# Altium integrated library Linear Technology Power Management Hot Swap Controllers.IntLib: 992 symbols (part 51 of 93)
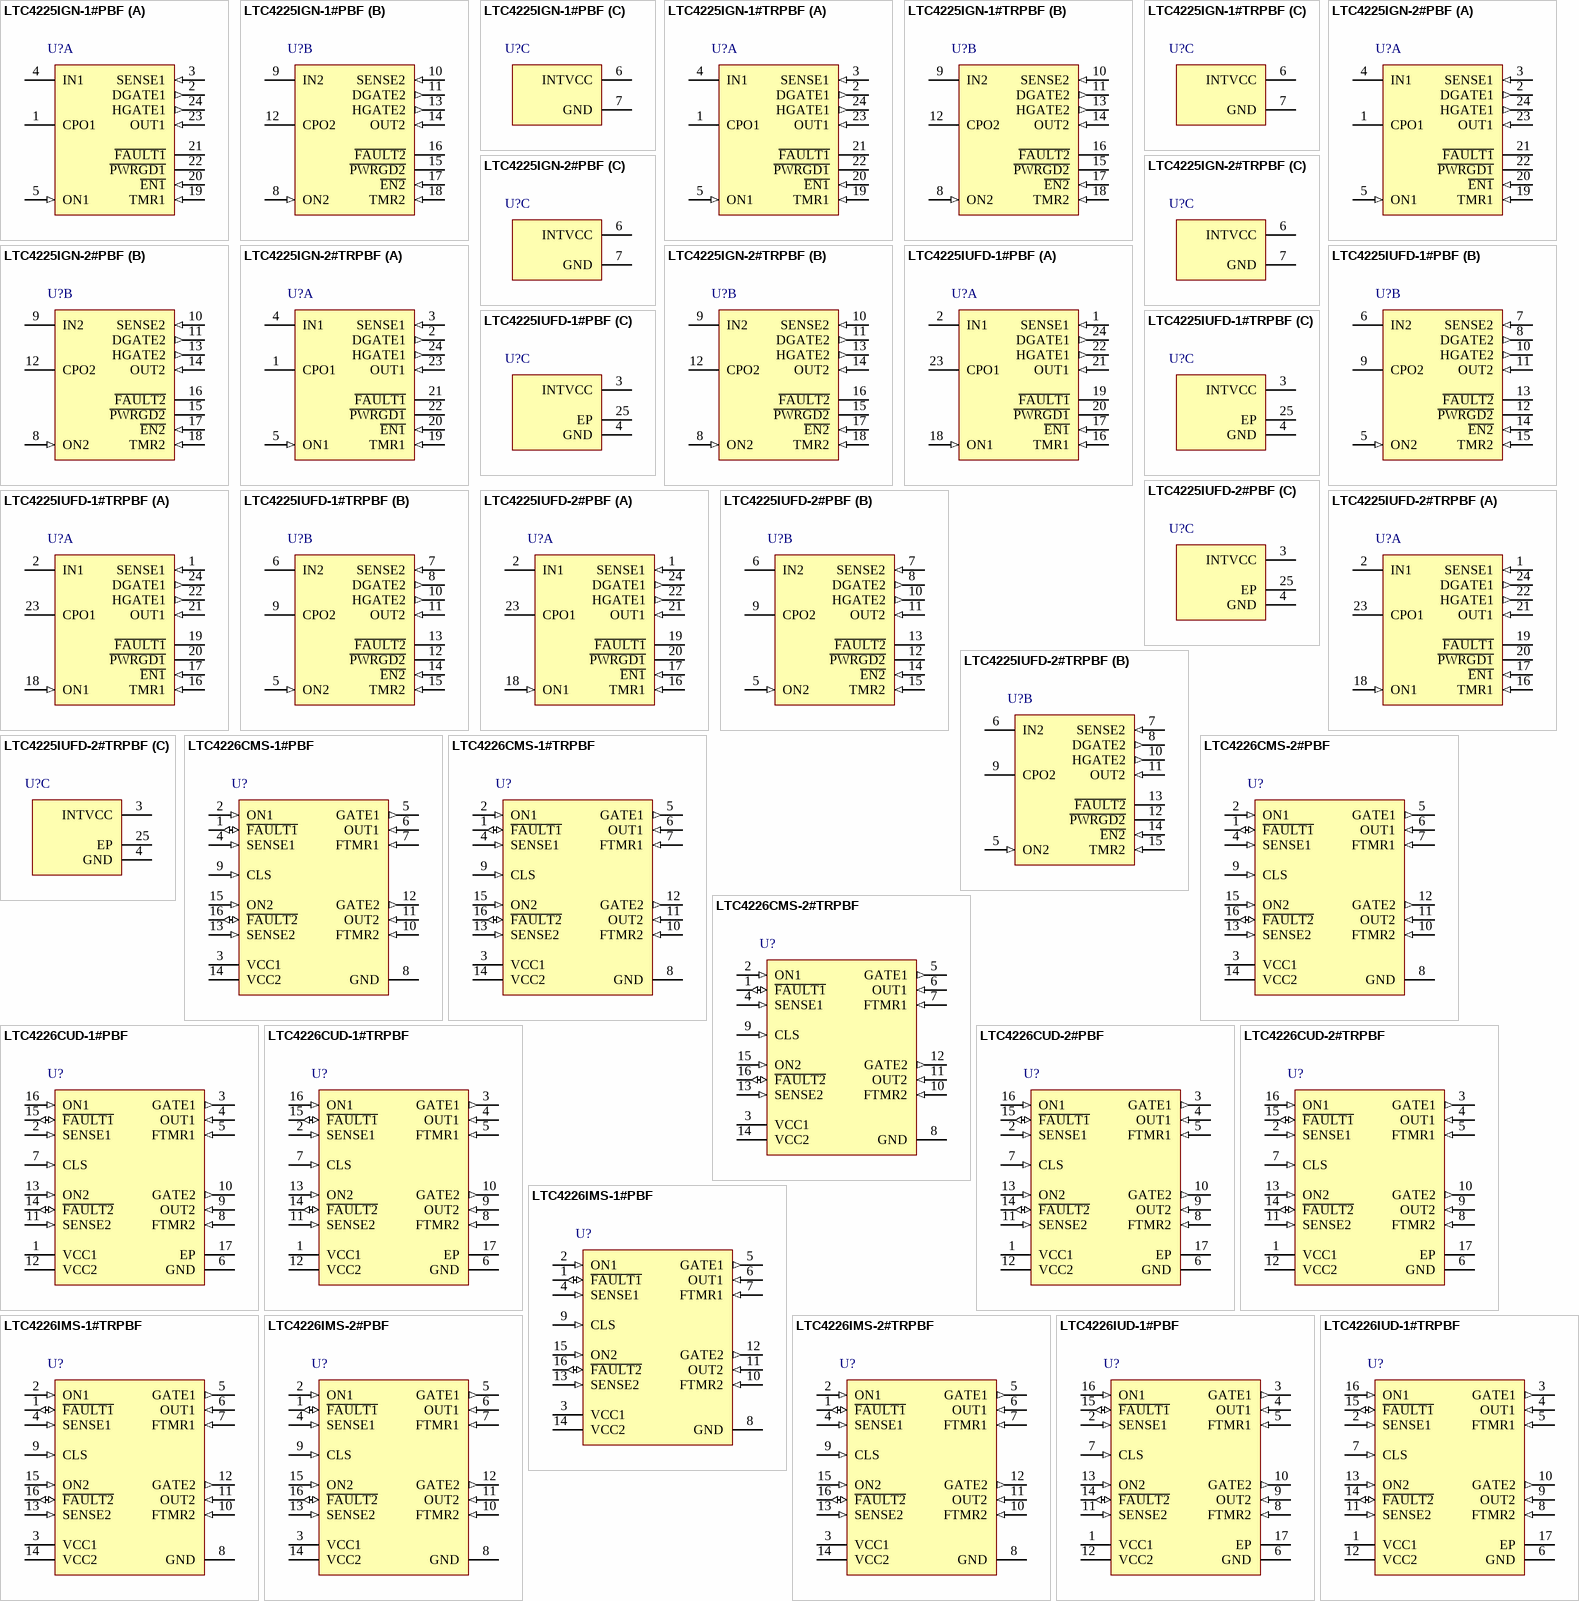
[diagram p87: symbols LTC4225IGN-1#PBF to LTC4226IUD-1#TRPBF]

## LTC4225IUFD-2#TRPBF
designator U?
Dual Ideal Diode and Hot Swap Controller, 2.9 to 18 V Vin, 24-pin QFN (UFD-24), -40 to 85 degC, Pb-Free, Tape and Reel; Manufacturer: Linear Technology; PartNumber: LTC4225IUFD-2#TRPBF; Active Limiting: yes; Circuit Breaker Accuracy(%): 5; Circuit Breaker Threshold: 50 mV; Circuit Breakers(#): 2; Extended Temp: C, I; Foldback: no; PackageVersion: Rev. A, 06/2010; PackageReference: UFD-24; PackageDescription: 24-Pin Plastic QFN, Body 5 x 4 mm, Pitch 0.5 mm; Supplier 1: Digi-Key; Supplier Part Number 1: LTC4225IUFD-2#TRPBF-ND; Fault: yes; Packing: Tape and Reel; Power Good: yes; RoHS: TRUE; Vin Range: 2.9 to 18 V; Mounting Technology: Surface Mount; Code_JEDEC: MO-220; ComponentLink1Description: Manufacturer URL; ComponentLink1URL: http://www.linear.com/; ComponentLink2Description: Datasheet; ComponentLink2URL: http://cds.linear.com/docs/en/datasheet/422512f.pdf; ComponentLink3Description: Package Specification; ComponentLink3URL: http://cds.linear.com/docs/en/packaging/QFN_24_05-08-1696.pdf
footprint LT-UFD-24_N (QFN, 24-Leads, Body 5.1x4.1mm, Pitch 0.5mm, Thermal Pad 3.65x2.65 mm, IPC Medium Density)
footprint LT-UFD-24_L (QFN, 24-Leads, Body 5.1x4.1mm, Pitch 0.5mm, Thermal Pad 3.65x2.65 mm, IPC High Density)
footprint LT-UFD-24_M (QFN, 24-Leads, Body 5.1x4.1mm, Pitch 0.5mm, Thermal Pad 3.65x2.65 mm, IPC Low Density)
part A pins: 1 SENSE1 (in) "Negative Current Sense Input. Connect this pin to the output of the current sense resistor. The current limit circuit controls HGATE to limit the voltage between IN and SENSE to 65mV. A circuit breaker trips when the sense (See Datasheet)", 2 IN1 (power) "Positive Supply Input and MOSFET Gate Drive Return. The 5V INTVCC supply is generated from IN1 and IN2 via an internal diode-OR. The voltage sensed at this pin is used to control DGATE for forward voltage regulation and (See Datasheet)", 16 TMR1 (in) "Timer Capacitor Terminal. Connect a capacitor between this pin and ground to set a 12ms/uF duration for current limit before the external Hot Swap MOSFET is turned off. The duration of the off time is 617ms/uF, resulting in (See Datasheet)", 17 ~{EN1} (in) "Enable Input. Ground this pin to enable Hot Swap control. If this pin is pulled high, the MOSFET is not allowed to turn on. A 10uA current source pulls this pin up to a diode below INTVCC. Upon E\N\ going low when ON is (See Datasheet)", 18 ON1 (in) "On Control Input. A rising edge above 1.235V turns on the external Hot Swap MOSFET and a falling edge below 1.155V turns it off. Connect this pin to an external resistive divider from IN to monitor the supply undervoltage (See Datasheet)", 19 ~{FAULT1} (oc) "Fault Status Output. Open-drain output that is normally pulled high by a 10uA current source to a diode below INTVCC. It may be pulled above INTVCC using an external pull-up. It pulls low when the circuit breaker is tripped (See Datasheet)", 20 ~{PWRGD1} (oc) "Power Status Output. Open-drain output that is normally pulled high by a 10uA current source to a diode below INTVCC. It may be pulled above INTVCC using an external pull-up. It pulls low when the MOSFET gate drive between (See Datasheet)", 21 OUT1 (in) "Output Voltage Sense and MOSFET Gate Drive Return. Connect this pin to the output side of the external MOSFET. The voltage sensed at this pin is used to control DGATE. The gate fast pull-down current returns through this pin (See Datasheet)", 22 HGATE1 (out) "Hot Swap MOSFET Gate Drive Output. Connect this pin to the gate of the external N-channel MOSFET for Hot Swap control. An internal 10uA current source charges the MOSFET gate. An internal clamp limits the gate voltage to 12V (See Datasheet)", 23 CPO1 "Charge Pump Output. Connect a capacitor from CPO1 or CPO2 to the corresponding IN1 or IN2 pin. The value of this capacitor is approximately 10x the gate capacitance (CISS) of the external MOSFET for ideal diode control. The (See Datasheet)", 24 DGATE1 (out) "Ideal Diode MOSFET Gate Drive Output. Connect this pin to the gate of an external N-channel MOSFET for ideal diode control. An internal clamp limits the gate voltage to 12V above and a diode voltage below IN. During fast (See Datasheet)"
part B pins: 5 ON2 (in) "On Control Input. A rising edge above 1.235V turns on the external Hot Swap MOSFET and a falling edge below 1.155V turns it off. Connect this pin to an external resistive divider from IN to monitor the supply undervoltage (See Datasheet)", 6 IN2 (power) "Positive Supply Input and MOSFET Gate Drive Return. The 5V INTVCC supply is generated from IN1 and IN2 via an internal diode-OR. The voltage sensed at this pin is used to control DGATE for forward voltage regulation and (See Datasheet)", 7 SENSE2 (in) "Negative Current Sense Input. Connect this pin to the output of the current sense resistor. The current limit circuit controls HGATE to limit the voltage between IN and SENSE to 65mV. A circuit breaker trips when the sense (See Datasheet)", 8 DGATE2 (out) "Ideal Diode MOSFET Gate Drive Output. Connect this pin to the gate of an external N-channel MOSFET for ideal diode control. An internal clamp limits the gate voltage to 12V above and a diode voltage below IN. During fast (See Datasheet)", 9 CPO2 "Charge Pump Output. Connect a capacitor from CPO1 or CPO2 to the corresponding IN1 or IN2 pin. The value of this capacitor is approximately 10x the gate capacitance (CISS) of the external MOSFET for ideal diode control. The (See Datasheet)", 10 HGATE2 (out) "Hot Swap MOSFET Gate Drive Output. Connect this pin to the gate of the external N-channel MOSFET for Hot Swap control. An internal 10uA current source charges the MOSFET gate. An internal clamp limits the gate voltage to 12V (See Datasheet)", 11 OUT2 (in) "Output Voltage Sense and MOSFET Gate Drive Return. Connect this pin to the output side of the external MOSFET. The voltage sensed at this pin is used to control DGATE. The gate fast pull-down current returns through this pin (See Datasheet)", 12 ~{PWRGD2} (oc) "Power Status Output. Open-drain output that is normally pulled high by a 10uA current source to a diode below INTVCC. It may be pulled above INTVCC using an external pull-up. It pulls low when the MOSFET gate drive between (See Datasheet)", 13 ~{FAULT2} (oc) "Fault Status Output. Open-drain output that is normally pulled high by a 10uA current source to a diode below INTVCC. It may be pulled above INTVCC using an external pull-up. It pulls low when the circuit breaker is tripped (See Datasheet)", 14 ~{EN2} (in) "Enable Input. Ground this pin to enable Hot Swap control. If this pin is pulled high, the MOSFET is not allowed to turn on. A 10uA current source pulls this pin up to a diode below INTVCC. Upon E\N\ going low when ON is (See Datasheet)", 15 TMR2 (in) "Timer Capacitor Terminal. Connect a capacitor between this pin and ground to set a 12ms/uF duration for current limit before the external Hot Swap MOSFET is turned off. The duration of the off time is 617ms/uF, resulting in (See Datasheet)"
part C pins: 3 INTVCC (power) "Internal 5V Supply Decoupling Output. This pin must have a 0.1uF or larger capacitor. An external load of less than 500uA can be connected at this pin.", 4 GND (power) "Device Ground", 25 EP (power) "The exposed pad may be left open or connected to device ground."

## LTC4226CMS-1#PBF
designator U?
Wide Operating Range Dual Hot Swap Controller, 4.5 to 44 V Vin, 16-pin SOP (MS-16), 0 to 70 degC, Pb-Free; Manufacturer: Linear Technology; PartNumber: LTC4226CMS-1#PBF; Active Limiting: yes; Circuit Breaker Accuracy(%): 10; Circuit Breaker Threshold: 50 mV; Circuit Breakers(#): 2; Extended Temp: C, I; Foldback: no; PackageVersion: Rev. Ø, 06/2010; PackageReference: MS16; PackageDescription: 16-Pin Plastic MSOP, Body 4.04 x 3.00 mm, Pitch 0.50 mm; Supplier 1: Digi-Key; Supplier Part Number 1: LTC4226CMS-1#PBF-ND; Supplier 2: Newark; Supplier Part Number 2: 48W6413; Fast Comparator: yes; Fault: yes; Power Good: no; Reset: no; RoHS: TRUE; Vin Range: 4.5 to 44 V; Mounting Technology: Surface Mount; ComponentLink1Description: Manufacturer URL; ComponentLink1URL: http://www.linear.com/; ComponentLink2Description: Datasheet; ComponentLink2URL: http://cds.linear.com/docs/en/datasheet/4226f.pdf; ComponentLink3Description: Package Specification; ComponentLink3URL: http://cds.linear.com/docs/en/packaging/05081669_A_MS16.pdf
footprint LT-MS-16_N (SOP, 16-Leads, Body 4.1x3.1mm, Pitch 0.5mm, IPC Medium Density)
footprint LT-MS-16_L (SOP, 16-Leads, Body 4.1x3.1mm, Pitch 0.5mm, IPC High Density)
footprint LT-MS-16_M (SOP, 16-Leads, Body 4.1x3.1mm, Pitch 0.5mm, IPC Low Density)
pins: 1 ~{FAULT1} (io) "F\A\U\L\T\ Input/Output Status. When the FTMR pin has reached the VFTMR(H) threshold, the fault status is set active and the F\A\U\L\T\ pin output pulls low. When fault is inactive, a 10uA current source pulls this pin up to (See Datasheet)", 2 ON1 (in) "ON Control Inputs. The ON pins have a 1.23V threshold with 50mV of hysteresis. A high input turns on the external MOSFET with a 10ms delay. A low input turns off the external MOSFET and resets circuit breaker faults.", 3 VCC1 (power) "Supply Voltage and Current Sense Positive Input. An undervoltage lockout circuit disables the MOSFET switch until VCC is above the lockout voltage VCC(UVL) for 50ms.", 4 SENSE1 (in) "Current Sense Negative Input. The circuit breaker comparator and the current limit amplifier monitor the voltage across the sense resistor. The current limitingamplifiercontrolstheGATEoftheexternalMOSFETto keep the sense (See Datasheet)", 5 GATE1 (out) "Gate Drive for External MOSFET. The gate driver controls the external N-channel MOSFET switch by applying a voltage across the GATE and OUT pins which connect to the MOSFET gate and source pins. A charge pump sources 9uA at (See Datasheet)", 6 OUT1 (in) "Gate Drive Return. Connect this pin to the source of the external N-channel MOSFET switch. This pin provides a return for the gate pull-down circuit. When the GATE pin is below the OUT pin, the internal clamp diode draws (See Datasheet)", 7 FTMR1 (in) "Fault Timer. A capacitor sets the dualrate fault timer durations: circuit breaker CB timeout and current limit CL timeout.", 8 GND (power) "Device ground", 9 CLS (in) "Three-State Current Limit Select Input. Tying this pin low enables 1.5x current limit; opening this pin enables 2xcurrent limit and tying this pin high (above 2V) enables 3xcurrentlimit.", 10 FTMR2 (in) "Fault Timer. A capacitor sets the dualrate fault timer durations: circuit breaker CB timeout and current limit CL timeout.", 11 OUT2 (in) "Gate Drive Return. Connect this pin to the source of the external N-channel MOSFET switch. This pin provides a return for the gate pull-down circuit. When the GATE pin is below the OUT pin, the internal clamp diode draws (See Datasheet)", 12 GATE2 (out) "Gate Drive for External MOSFET. The gate driver controls the external N-channel MOSFET switch by applying a voltage across the GATE and OUT pins which connect to the MOSFET gate and source pins. A charge pump sources 9uA at (See Datasheet)", 13 SENSE2 (in) "Current Sense Negative Input. The circuit breaker comparator and the current limit amplifier monitor the voltage across the sense resistor. The current limitingamplifiercontrolstheGATEoftheexternalMOSFETto keep the sense (See Datasheet)", 14 VCC2 (power) "Supply Voltage and Current Sense Positive Input. An undervoltage lockout circuit disables the MOSFET switch until VCC is above the lockout voltage VCC(UVL) for 50ms.", 15 ON2 (in) "ON Control Inputs. The ON pins have a 1.23V threshold with 50mV of hysteresis. A high input turns on the external MOSFET with a 10ms delay. A low input turns off the external MOSFET and resets circuit breaker faults.", 16 ~{FAULT2} (io) "F\A\U\L\T\ Input/Output Status. When the FTMR pin has reached the VFTMR(H) threshold, the fault status is set active and the F\A\U\L\T\ pin output pulls low. When fault is inactive, a 10uA current source pulls this pin up to (See Datasheet)"

## LTC4226CMS-1#TRPBF
designator U?
Wide Operating Range Dual Hot Swap Controller, 4.5 to 44 V Vin, 16-pin SOP (MS-16), 0 to 70 degC, Pb-Free, Tape and Reel; Manufacturer: Linear Technology; PartNumber: LTC4226CMS-1#TRPBF; Active Limiting: yes; Circuit Breaker Accuracy(%): 10; Circuit Breaker Threshold: 50 mV; Circuit Breakers(#): 2; Extended Temp: C, I; Foldback: no; PackageVersion: Rev. Ø, 06/2010; PackageReference: MS16; PackageDescription: 16-Pin Plastic MSOP, Body 4.04 x 3.00 mm, Pitch 0.50 mm; Supplier 1: Digi-Key; Supplier Part Number 1: LTC4226CMS-1#TRPBF-ND; Supplier 2: Newark; Supplier Part Number 2: 48W6414; Fast Comparator: yes; Fault: yes; Packing: Tape and Reel; Power Good: no; Reset: no; RoHS: TRUE; Vin Range: 4.5 to 44 V; Mounting Technology: Surface Mount; ComponentLink1Description: Manufacturer URL; ComponentLink1URL: http://www.linear.com/; ComponentLink2Description: Datasheet; ComponentLink2URL: http://cds.linear.com/docs/en/datasheet/4226f.pdf; ComponentLink3Description: Package Specification; ComponentLink3URL: http://cds.linear.com/docs/en/packaging/05081669_A_MS16.pdf
footprint LT-MS-16_N (SOP, 16-Leads, Body 4.1x3.1mm, Pitch 0.5mm, IPC Medium Density)
footprint LT-MS-16_L (SOP, 16-Leads, Body 4.1x3.1mm, Pitch 0.5mm, IPC High Density)
footprint LT-MS-16_M (SOP, 16-Leads, Body 4.1x3.1mm, Pitch 0.5mm, IPC Low Density)
pins: 1 ~{FAULT1} (io) "F\A\U\L\T\ Input/Output Status. When the FTMR pin has reached the VFTMR(H) threshold, the fault status is set active and the F\A\U\L\T\ pin output pulls low. When fault is inactive, a 10uA current source pulls this pin up to (See Datasheet)", 2 ON1 (in) "ON Control Inputs. The ON pins have a 1.23V threshold with 50mV of hysteresis. A high input turns on the external MOSFET with a 10ms delay. A low input turns off the external MOSFET and resets circuit breaker faults.", 3 VCC1 (power) "Supply Voltage and Current Sense Positive Input. An undervoltage lockout circuit disables the MOSFET switch until VCC is above the lockout voltage VCC(UVL) for 50ms.", 4 SENSE1 (in) "Current Sense Negative Input. The circuit breaker comparator and the current limit amplifier monitor the voltage across the sense resistor. The current limitingamplifiercontrolstheGATEoftheexternalMOSFETto keep the sense (See Datasheet)", 5 GATE1 (out) "Gate Drive for External MOSFET. The gate driver controls the external N-channel MOSFET switch by applying a voltage across the GATE and OUT pins which connect to the MOSFET gate and source pins. A charge pump sources 9uA at (See Datasheet)", 6 OUT1 (in) "Gate Drive Return. Connect this pin to the source of the external N-channel MOSFET switch. This pin provides a return for the gate pull-down circuit. When the GATE pin is below the OUT pin, the internal clamp diode draws (See Datasheet)", 7 FTMR1 (in) "Fault Timer. A capacitor sets the dualrate fault timer durations: circuit breaker CB timeout and current limit CL timeout.", 8 GND (power) "Device ground", 9 CLS (in) "Three-State Current Limit Select Input. Tying this pin low enables 1.5x current limit; opening this pin enables 2xcurrent limit and tying this pin high (above 2V) enables 3xcurrentlimit.", 10 FTMR2 (in) "Fault Timer. A capacitor sets the dualrate fault timer durations: circuit breaker CB timeout and current limit CL timeout.", 11 OUT2 (in) "Gate Drive Return. Connect this pin to the source of the external N-channel MOSFET switch. This pin provides a return for the gate pull-down circuit. When the GATE pin is below the OUT pin, the internal clamp diode draws (See Datasheet)", 12 GATE2 (out) "Gate Drive for External MOSFET. The gate driver controls the external N-channel MOSFET switch by applying a voltage across the GATE and OUT pins which connect to the MOSFET gate and source pins. A charge pump sources 9uA at (See Datasheet)", 13 SENSE2 (in) "Current Sense Negative Input. The circuit breaker comparator and the current limit amplifier monitor the voltage across the sense resistor. The current limitingamplifiercontrolstheGATEoftheexternalMOSFETto keep the sense (See Datasheet)", 14 VCC2 (power) "Supply Voltage and Current Sense Positive Input. An undervoltage lockout circuit disables the MOSFET switch until VCC is above the lockout voltage VCC(UVL) for 50ms.", 15 ON2 (in) "ON Control Inputs. The ON pins have a 1.23V threshold with 50mV of hysteresis. A high input turns on the external MOSFET with a 10ms delay. A low input turns off the external MOSFET and resets circuit breaker faults.", 16 ~{FAULT2} (io) "F\A\U\L\T\ Input/Output Status. When the FTMR pin has reached the VFTMR(H) threshold, the fault status is set active and the F\A\U\L\T\ pin output pulls low. When fault is inactive, a 10uA current source pulls this pin up to (See Datasheet)"

## LTC4226CMS-2#PBF
designator U?
Wide Operating Range Dual Hot Swap Controller, 4.5 to 44 V Vin, 16-pin SOP (MS-16), 0 to 70 degC, Pb-Free; Manufacturer: Linear Technology; PartNumber: LTC4226CMS-2#PBF; Active Limiting: yes; Circuit Breaker Accuracy(%): 10; Circuit Breaker Threshold: 50 mV; Circuit Breakers(#): 2; Extended Temp: C, I; Foldback: no; PackageVersion: Rev. Ø, 06/2010; PackageReference: MS16; PackageDescription: 16-Pin Plastic MSOP, Body 4.04 x 3.00 mm, Pitch 0.50 mm; Supplier 1: Digi-Key; Supplier Part Number 1: LTC4226CMS-2#PBF-ND; Supplier 2: Newark; Supplier Part Number 2: 48W6415; Fast Comparator: yes; Fault: yes; Power Good: no; Reset: no; RoHS: TRUE; Vin Range: 4.5 to 44 V; Mounting Technology: Surface Mount; ComponentLink1Description: Manufacturer URL; ComponentLink1URL: http://www.linear.com/; ComponentLink2Description: Datasheet; ComponentLink2URL: http://cds.linear.com/docs/en/datasheet/4226f.pdf; ComponentLink3Description: Package Specification; ComponentLink3URL: http://cds.linear.com/docs/en/packaging/05081669_A_MS16.pdf
footprint LT-MS-16_N (SOP, 16-Leads, Body 4.1x3.1mm, Pitch 0.5mm, IPC Medium Density)
footprint LT-MS-16_L (SOP, 16-Leads, Body 4.1x3.1mm, Pitch 0.5mm, IPC High Density)
footprint LT-MS-16_M (SOP, 16-Leads, Body 4.1x3.1mm, Pitch 0.5mm, IPC Low Density)
pins: 1 ~{FAULT1} (io) "F\A\U\L\T\ Input/Output Status. When the FTMR pin has reached the VFTMR(H) threshold, the fault status is set active and the F\A\U\L\T\ pin output pulls low. When fault is inactive, a 10uA current source pulls this pin up to (See Datasheet)", 2 ON1 (in) "ON Control Inputs. The ON pins have a 1.23V threshold with 50mV of hysteresis. A high input turns on the external MOSFET with a 10ms delay. A low input turns off the external MOSFET and resets circuit breaker faults.", 3 VCC1 (power) "Supply Voltage and Current Sense Positive Input. An undervoltage lockout circuit disables the MOSFET switch until VCC is above the lockout voltage VCC(UVL) for 50ms.", 4 SENSE1 (in) "Current Sense Negative Input. The circuit breaker comparator and the current limit amplifier monitor the voltage across the sense resistor. The current limitingamplifiercontrolstheGATEoftheexternalMOSFETto keep the sense (See Datasheet)", 5 GATE1 (out) "Gate Drive for External MOSFET. The gate driver controls the external N-channel MOSFET switch by applying a voltage across the GATE and OUT pins which connect to the MOSFET gate and source pins. A charge pump sources 9uA at (See Datasheet)", 6 OUT1 (in) "Gate Drive Return. Connect this pin to the source of the external N-channel MOSFET switch. This pin provides a return for the gate pull-down circuit. When the GATE pin is below the OUT pin, the internal clamp diode draws (See Datasheet)", 7 FTMR1 (in) "Fault Timer. A capacitor sets the dualrate fault timer durations: circuit breaker CB timeout and current limit CL timeout.", 8 GND (power) "Device ground", 9 CLS (in) "Three-State Current Limit Select Input. Tying this pin low enables 1.5x current limit; opening this pin enables 2xcurrent limit and tying this pin high (above 2V) enables 3xcurrentlimit.", 10 FTMR2 (in) "Fault Timer. A capacitor sets the dualrate fault timer durations: circuit breaker CB timeout and current limit CL timeout.", 11 OUT2 (in) "Gate Drive Return. Connect this pin to the source of the external N-channel MOSFET switch. This pin provides a return for the gate pull-down circuit. When the GATE pin is below the OUT pin, the internal clamp diode draws (See Datasheet)", 12 GATE2 (out) "Gate Drive for External MOSFET. The gate driver controls the external N-channel MOSFET switch by applying a voltage across the GATE and OUT pins which connect to the MOSFET gate and source pins. A charge pump sources 9uA at (See Datasheet)", 13 SENSE2 (in) "Current Sense Negative Input. The circuit breaker comparator and the current limit amplifier monitor the voltage across the sense resistor. The current limitingamplifiercontrolstheGATEoftheexternalMOSFETto keep the sense (See Datasheet)", 14 VCC2 (power) "Supply Voltage and Current Sense Positive Input. An undervoltage lockout circuit disables the MOSFET switch until VCC is above the lockout voltage VCC(UVL) for 50ms.", 15 ON2 (in) "ON Control Inputs. The ON pins have a 1.23V threshold with 50mV of hysteresis. A high input turns on the external MOSFET with a 10ms delay. A low input turns off the external MOSFET and resets circuit breaker faults.", 16 ~{FAULT2} (io) "F\A\U\L\T\ Input/Output Status. When the FTMR pin has reached the VFTMR(H) threshold, the fault status is set active and the F\A\U\L\T\ pin output pulls low. When fault is inactive, a 10uA current source pulls this pin up to (See Datasheet)"

## LTC4226CMS-2#TRPBF
designator U?
Wide Operating Range Dual Hot Swap Controller, 4.5 to 44 V Vin, 16-pin SOP (MS-16), 0 to 70 degC, Pb-Free, Tape and Reel; Manufacturer: Linear Technology; PartNumber: LTC4226CMS-2#TRPBF; Active Limiting: yes; Circuit Breaker Accuracy(%): 10; Circuit Breaker Threshold: 50 mV; Circuit Breakers(#): 2; Extended Temp: C, I; Foldback: no; PackageVersion: Rev. Ø, 06/2010; PackageReference: MS16; PackageDescription: 16-Pin Plastic MSOP, Body 4.04 x 3.00 mm, Pitch 0.50 mm; Supplier 1: Digi-Key; Supplier Part Number 1: LTC4226CMS-2#TRPBF-ND; Supplier 2: Newark; Supplier Part Number 2: 48W6416; Fast Comparator: yes; Fault: yes; Packing: Tape and Reel; Power Good: no; Reset: no; RoHS: TRUE; Vin Range: 4.5 to 44 V; Mounting Technology: Surface Mount; ComponentLink1Description: Manufacturer URL; ComponentLink1URL: http://www.linear.com/; ComponentLink2Description: Datasheet; ComponentLink2URL: http://cds.linear.com/docs/en/datasheet/4226f.pdf; ComponentLink3Description: Package Specification; ComponentLink3URL: http://cds.linear.com/docs/en/packaging/05081669_A_MS16.pdf
footprint LT-MS-16_N (SOP, 16-Leads, Body 4.1x3.1mm, Pitch 0.5mm, IPC Medium Density)
footprint LT-MS-16_L (SOP, 16-Leads, Body 4.1x3.1mm, Pitch 0.5mm, IPC High Density)
footprint LT-MS-16_M (SOP, 16-Leads, Body 4.1x3.1mm, Pitch 0.5mm, IPC Low Density)
pins: 1 ~{FAULT1} (io) "F\A\U\L\T\ Input/Output Status. When the FTMR pin has reached the VFTMR(H) threshold, the fault status is set active and the F\A\U\L\T\ pin output pulls low. When fault is inactive, a 10uA current source pulls this pin up to (See Datasheet)", 2 ON1 (in) "ON Control Inputs. The ON pins have a 1.23V threshold with 50mV of hysteresis. A high input turns on the external MOSFET with a 10ms delay. A low input turns off the external MOSFET and resets circuit breaker faults.", 3 VCC1 (power) "Supply Voltage and Current Sense Positive Input. An undervoltage lockout circuit disables the MOSFET switch until VCC is above the lockout voltage VCC(UVL) for 50ms.", 4 SENSE1 (in) "Current Sense Negative Input. The circuit breaker comparator and the current limit amplifier monitor the voltage across the sense resistor. The current limitingamplifiercontrolstheGATEoftheexternalMOSFETto keep the sense (See Datasheet)", 5 GATE1 (out) "Gate Drive for External MOSFET. The gate driver controls the external N-channel MOSFET switch by applying a voltage across the GATE and OUT pins which connect to the MOSFET gate and source pins. A charge pump sources 9uA at (See Datasheet)", 6 OUT1 (in) "Gate Drive Return. Connect this pin to the source of the external N-channel MOSFET switch. This pin provides a return for the gate pull-down circuit. When the GATE pin is below the OUT pin, the internal clamp diode draws (See Datasheet)", 7 FTMR1 (in) "Fault Timer. A capacitor sets the dualrate fault timer durations: circuit breaker CB timeout and current limit CL timeout.", 8 GND (power) "Device ground", 9 CLS (in) "Three-State Current Limit Select Input. Tying this pin low enables 1.5x current limit; opening this pin enables 2xcurrent limit and tying this pin high (above 2V) enables 3xcurrentlimit.", 10 FTMR2 (in) "Fault Timer. A capacitor sets the dualrate fault timer durations: circuit breaker CB timeout and current limit CL timeout.", 11 OUT2 (in) "Gate Drive Return. Connect this pin to the source of the external N-channel MOSFET switch. This pin provides a return for the gate pull-down circuit. When the GATE pin is below the OUT pin, the internal clamp diode draws (See Datasheet)", 12 GATE2 (out) "Gate Drive for External MOSFET. The gate driver controls the external N-channel MOSFET switch by applying a voltage across the GATE and OUT pins which connect to the MOSFET gate and source pins. A charge pump sources 9uA at (See Datasheet)", 13 SENSE2 (in) "Current Sense Negative Input. The circuit breaker comparator and the current limit amplifier monitor the voltage across the sense resistor. The current limitingamplifiercontrolstheGATEoftheexternalMOSFETto keep the sense (See Datasheet)", 14 VCC2 (power) "Supply Voltage and Current Sense Positive Input. An undervoltage lockout circuit disables the MOSFET switch until VCC is above the lockout voltage VCC(UVL) for 50ms.", 15 ON2 (in) "ON Control Inputs. The ON pins have a 1.23V threshold with 50mV of hysteresis. A high input turns on the external MOSFET with a 10ms delay. A low input turns off the external MOSFET and resets circuit breaker faults.", 16 ~{FAULT2} (io) "F\A\U\L\T\ Input/Output Status. When the FTMR pin has reached the VFTMR(H) threshold, the fault status is set active and the F\A\U\L\T\ pin output pulls low. When fault is inactive, a 10uA current source pulls this pin up to (See Datasheet)"

## LTC4226CUD-1#PBF
designator U?
Wide Operating Range Dual Hot Swap Controller, 4.5 to 44 V Vin, 16-pin QFN (UD-16-EPV-AA), 0 to 70 degC, Pb-Free; Manufacturer: Linear Technology; PartNumber: LTC4226CUD-1#PBF; Active Limiting: yes; Circuit Breaker Accuracy(%): 10; Circuit Breaker Threshold: 50 mV; Circuit Breakers(#): 2; Extended Temp: C, I; Foldback: no; PackageVersion: Rev. A, 06/2010; PackageReference: UD-16; PackageDescription: 16-Pin Plastic QFN, Body 3 x 3 mm, Pitch 0.5 mm; Supplier 1: Digi-Key; Supplier Part Number 1: LTC4226CUD-1#PBF-ND; Supplier 2: Newark; Supplier Part Number 2: 48W6417; Fast Comparator: yes; Fault: yes; Power Good: no; Reset: no; RoHS: TRUE; Vin Range: 4.5 to 44 V; Mounting Technology: Surface Mount; Code_JEDEC: MO-220; ComponentLink1Description: Manufacturer URL; ComponentLink1URL: http://www.linear.com/; ComponentLink2Description: Datasheet; ComponentLink2URL: http://cds.linear.com/docs/en/datasheet/4226f.pdf; ComponentLink3Description: Package Specification; ComponentLink3URL: http://cds.linear.com/docs/en/packaging/QFN_16_05-08-1700.pdf
footprint LT-UD-16-EPV-AA_N (QFN, 16-Leads, Body 3.1x3.1mm, Pitch 0.5mm, Thermal Pad 1.65x1.65mm, IPC Medium Density)
footprint LT-UD-16-EPV-AA_L (QFN, 16-Leads, Body 3.1x3.1mm, Pitch 0.5mm, Thermal Pad 1.65x1.65mm, IPC High Density)
footprint LT-UD-16-EPV-AA_M (QFN, 16-Leads, Body 3.1x3.1mm, Pitch 0.5mm, Thermal Pad 1.65x1.65mm, IPC Low Density)
pins: 1 VCC1 (power) "Supply Voltage and Current Sense Positive Input. An undervoltage lockout circuit disables the MOSFET switch until VCC is above the lockout voltage VCC(UVL) for 50ms.", 2 SENSE1 (in) "Current Sense Negative Input. The circuit breaker comparator and the current limit amplifier monitor the voltage across the sense resistor. The current limiting amplifier controls the GATE of the external MOSFET to keep the (See Datasheet)", 3 GATE1 (out) "Gate Drive for External MOSFET. The gate driver controls the external N-channel MOSFET switch by applying a voltage across the GATE and OUT pins which connect to the MOSFET gate and source pins. A charge pump sources 9uA at (See Datasheet)", 4 OUT1 (in) "Gate Drive Return. Connect this pin to the source of the external N-channel MOSFET switch. This pin provides a return for the gate pull-down circuit. When the GATE pin is below the OUT pin, the internal clamp diode draws (See Datasheet)", 5 FTMR1 (in) "Fault Timer. A capacitor sets the dualrate fault timer durations: circuit breaker CB timeout and current limit CL timeout.", 6 GND (power) "Device ground", 7 CLS (in) "Three-State Current Limit Select Input. Tying this pin low enables 1.5x current limit; opening this pin enables 2xcurrent limit and tying this pin high (above 2V) enables 3xcurrentlimit.", 8 FTMR2 (in) "Fault Timer. A capacitor sets the dualrate fault timer durations: circuit breaker CB timeout and current limit CL timeout.", 9 OUT2 (in) "Gate Drive Return. Connect this pin to the source of the external N-channel MOSFET switch. This pin provides a return for the gate pull-down circuit. When the GATE pin is below the OUT pin, the internal clamp diode draws (See Datasheet)", 10 GATE2 (out) "Gate Drive for External MOSFET. The gate driver controls the external N-channel MOSFET switch by applying a voltage across the GATE and OUT pins which connect to the MOSFET gate and source pins. A charge pump sources 9uA at (See Datasheet)", 11 SENSE2 (in) "Current Sense Negative Input. The circuit breaker comparator and the current limit amplifier monitor the voltage across the sense resistor. The current limiting amplifier controls the GATE of the external MOSFET to keep the (See Datasheet)", 12 VCC2 (power) "Supply Voltage and Current Sense Positive Input. An undervoltage lockout circuit disables the MOSFET switch until VCC is above the lockout voltage VCC(UVL) for 50ms.", 13 ON2 (in) "ON Control Inputs. The ON pins have a 1.23V threshold with 50mV of hysteresis. A high input turns on the external MOSFET with a 10ms delay. A low input turns off the external MOSFET and resets circuit breaker faults.", 14 ~{FAULT2} (io) "F\A\U\L\T\ Input/Output Status. When the FTMR pin has reached the VFTMR(H) threshold, the fault status is set active and the F\A\U\L\T\ pin output pulls low. When fault is inactive, a 10uA current source pulls this pin up to (See Datasheet)", 15 ~{FAULT1} (io) "F\A\U\L\T\ Input/Output Status. When the FTMR pin has reached the VFTMR(H) threshold, the fault status is set active and the F\A\U\L\T\ pin output pulls low. When fault is inactive, a 10uA current source pulls this pin up to (See Datasheet)", 16 ON1 (in) "ON Control Inputs. The ON pins have a 1.23V threshold with 50mV of hysteresis. A high input turns on the external MOSFET with a 10ms delay. A low input turns off the external MOSFET and resets circuit breaker faults.", 17 EP (power) "Exposed Pad: The exposed pad may be left open or connected to device ground"

## LTC4226CUD-1#TRPBF
designator U?
Wide Operating Range Dual Hot Swap Controller, 4.5 to 44 V Vin, 16-pin QFN (UD-16-EPV-AA), 0 to 70 degC, Pb-Free, Tape and Reel; Manufacturer: Linear Technology; PartNumber: LTC4226CUD-1#TRPBF; Active Limiting: yes; Circuit Breaker Accuracy(%): 10; Circuit Breaker Threshold: 50 mV; Circuit Breakers(#): 2; Extended Temp: C, I; Foldback: no; PackageVersion: Rev. A, 06/2010; PackageReference: UD-16; PackageDescription: 16-Pin Plastic QFN, Body 3 x 3 mm, Pitch 0.5 mm; Supplier 1: Digi-Key; Supplier Part Number 1: LTC4226CUD-1#TRPBF-ND; Supplier 2: Newark; Supplier Part Number 2: 48W6418; Fast Comparator: yes; Fault: yes; Packing: Tape and Reel; Power Good: no; Reset: no; RoHS: TRUE; Vin Range: 4.5 to 44 V; Mounting Technology: Surface Mount; Code_JEDEC: MO-220; ComponentLink1Description: Manufacturer URL; ComponentLink1URL: http://www.linear.com/; ComponentLink2Description: Datasheet; ComponentLink2URL: http://cds.linear.com/docs/en/datasheet/4226f.pdf; ComponentLink3Description: Package Specification; ComponentLink3URL: http://cds.linear.com/docs/en/packaging/QFN_16_05-08-1700.pdf
footprint LT-UD-16-EPV-AA_N (QFN, 16-Leads, Body 3.1x3.1mm, Pitch 0.5mm, Thermal Pad 1.65x1.65mm, IPC Medium Density)
footprint LT-UD-16-EPV-AA_L (QFN, 16-Leads, Body 3.1x3.1mm, Pitch 0.5mm, Thermal Pad 1.65x1.65mm, IPC High Density)
footprint LT-UD-16-EPV-AA_M (QFN, 16-Leads, Body 3.1x3.1mm, Pitch 0.5mm, Thermal Pad 1.65x1.65mm, IPC Low Density)
pins: 1 VCC1 (power) "Supply Voltage and Current Sense Positive Input. An undervoltage lockout circuit disables the MOSFET switch until VCC is above the lockout voltage VCC(UVL) for 50ms.", 2 SENSE1 (in) "Current Sense Negative Input. The circuit breaker comparator and the current limit amplifier monitor the voltage across the sense resistor. The current limiting amplifier controls the GATE of the external MOSFET to keep the (See Datasheet)", 3 GATE1 (out) "Gate Drive for External MOSFET. The gate driver controls the external N-channel MOSFET switch by applying a voltage across the GATE and OUT pins which connect to the MOSFET gate and source pins. A charge pump sources 9uA at (See Datasheet)", 4 OUT1 (in) "Gate Drive Return. Connect this pin to the source of the external N-channel MOSFET switch. This pin provides a return for the gate pull-down circuit. When the GATE pin is below the OUT pin, the internal clamp diode draws (See Datasheet)", 5 FTMR1 (in) "Fault Timer. A capacitor sets the dualrate fault timer durations: circuit breaker CB timeout and current limit CL timeout.", 6 GND (power) "Device ground", 7 CLS (in) "Three-State Current Limit Select Input. Tying this pin low enables 1.5x current limit; opening this pin enables 2xcurrent limit and tying this pin high (above 2V) enables 3xcurrentlimit.", 8 FTMR2 (in) "Fault Timer. A capacitor sets the dualrate fault timer durations: circuit breaker CB timeout and current limit CL timeout.", 9 OUT2 (in) "Gate Drive Return. Connect this pin to the source of the external N-channel MOSFET switch. This pin provides a return for the gate pull-down circuit. When the GATE pin is below the OUT pin, the internal clamp diode draws (See Datasheet)", 10 GATE2 (out) "Gate Drive for External MOSFET. The gate driver controls the external N-channel MOSFET switch by applying a voltage across the GATE and OUT pins which connect to the MOSFET gate and source pins. A charge pump sources 9uA at (See Datasheet)", 11 SENSE2 (in) "Current Sense Negative Input. The circuit breaker comparator and the current limit amplifier monitor the voltage across the sense resistor. The current limiting amplifier controls the GATE of the external MOSFET to keep the (See Datasheet)", 12 VCC2 (power) "Supply Voltage and Current Sense Positive Input. An undervoltage lockout circuit disables the MOSFET switch until VCC is above the lockout voltage VCC(UVL) for 50ms.", 13 ON2 (in) "ON Control Inputs. The ON pins have a 1.23V threshold with 50mV of hysteresis. A high input turns on the external MOSFET with a 10ms delay. A low input turns off the external MOSFET and resets circuit breaker faults.", 14 ~{FAULT2} (io) "F\A\U\L\T\ Input/Output Status. When the FTMR pin has reached the VFTMR(H) threshold, the fault status is set active and the F\A\U\L\T\ pin output pulls low. When fault is inactive, a 10uA current source pulls this pin up to (See Datasheet)", 15 ~{FAULT1} (io) "F\A\U\L\T\ Input/Output Status. When the FTMR pin has reached the VFTMR(H) threshold, the fault status is set active and the F\A\U\L\T\ pin output pulls low. When fault is inactive, a 10uA current source pulls this pin up to (See Datasheet)", 16 ON1 (in) "ON Control Inputs. The ON pins have a 1.23V threshold with 50mV of hysteresis. A high input turns on the external MOSFET with a 10ms delay. A low input turns off the external MOSFET and resets circuit breaker faults.", 17 EP (power) "Exposed Pad: The exposed pad may be left open or connected to device ground"

## LTC4226CUD-2#PBF
designator U?
Wide Operating Range Dual Hot Swap Controller, 4.5 to 44 V Vin, 16-pin QFN (UD-16-EPV-AA), 0 to 70 degC, Pb-Free; Manufacturer: Linear Technology; PartNumber: LTC4226CUD-2#PBF; Active Limiting: yes; Circuit Breaker Accuracy(%): 10; Circuit Breaker Threshold: 50 mV; Circuit Breakers(#): 2; Extended Temp: C, I; Foldback: no; PackageVersion: Rev. A, 06/2010; PackageReference: UD-16; PackageDescription: 16-Pin Plastic QFN, Body 3 x 3 mm, Pitch 0.5 mm; Supplier 1: Digi-Key; Supplier Part Number 1: LTC4226CUD-2#PBF-ND; Supplier 2: Newark; Supplier Part Number 2: 48W6419; Fast Comparator: yes; Fault: yes; Power Good: no; Reset: no; RoHS: TRUE; Vin Range: 4.5 to 44 V; Mounting Technology: Surface Mount; Code_JEDEC: MO-220; ComponentLink1Description: Manufacturer URL; ComponentLink1URL: http://www.linear.com/; ComponentLink2Description: Datasheet; ComponentLink2URL: http://cds.linear.com/docs/en/datasheet/4226f.pdf; ComponentLink3Description: Package Specification; ComponentLink3URL: http://cds.linear.com/docs/en/packaging/QFN_16_05-08-1700.pdf
footprint LT-UD-16-EPV-AA_N (QFN, 16-Leads, Body 3.1x3.1mm, Pitch 0.5mm, Thermal Pad 1.65x1.65mm, IPC Medium Density)
footprint LT-UD-16-EPV-AA_L (QFN, 16-Leads, Body 3.1x3.1mm, Pitch 0.5mm, Thermal Pad 1.65x1.65mm, IPC High Density)
footprint LT-UD-16-EPV-AA_M (QFN, 16-Leads, Body 3.1x3.1mm, Pitch 0.5mm, Thermal Pad 1.65x1.65mm, IPC Low Density)
pins: 1 VCC1 (power) "Supply Voltage and Current Sense Positive Input. An undervoltage lockout circuit disables the MOSFET switch until VCC is above the lockout voltage VCC(UVL) for 50ms.", 2 SENSE1 (in) "Current Sense Negative Input. The circuit breaker comparator and the current limit amplifier monitor the voltage across the sense resistor. The current limiting amplifier controls the GATE of the external MOSFET to keep the (See Datasheet)", 3 GATE1 (out) "Gate Drive for External MOSFET. The gate driver controls the external N-channel MOSFET switch by applying a voltage across the GATE and OUT pins which connect to the MOSFET gate and source pins. A charge pump sources 9uA at (See Datasheet)", 4 OUT1 (in) "Gate Drive Return. Connect this pin to the source of the external N-channel MOSFET switch. This pin provides a return for the gate pull-down circuit. When the GATE pin is below the OUT pin, the internal clamp diode draws (See Datasheet)", 5 FTMR1 (in) "Fault Timer. A capacitor sets the dualrate fault timer durations: circuit breaker CB timeout and current limit CL timeout.", 6 GND (power) "Device ground", 7 CLS (in) "Three-State Current Limit Select Input. Tying this pin low enables 1.5x current limit; opening this pin enables 2xcurrent limit and tying this pin high (above 2V) enables 3xcurrentlimit.", 8 FTMR2 (in) "Fault Timer. A capacitor sets the dualrate fault timer durations: circuit breaker CB timeout and current limit CL timeout.", 9 OUT2 (in) "Gate Drive Return. Connect this pin to the source of the external N-channel MOSFET switch. This pin provides a return for the gate pull-down circuit. When the GATE pin is below the OUT pin, the internal clamp diode draws (See Datasheet)", 10 GATE2 (out) "Gate Drive for External MOSFET. The gate driver controls the external N-channel MOSFET switch by applying a voltage across the GATE and OUT pins which connect to the MOSFET gate and source pins. A charge pump sources 9uA at (See Datasheet)", 11 SENSE2 (in) "Current Sense Negative Input. The circuit breaker comparator and the current limit amplifier monitor the voltage across the sense resistor. The current limiting amplifier controls the GATE of the external MOSFET to keep the (See Datasheet)", 12 VCC2 (power) "Supply Voltage and Current Sense Positive Input. An undervoltage lockout circuit disables the MOSFET switch until VCC is above the lockout voltage VCC(UVL) for 50ms.", 13 ON2 (in) "ON Control Inputs. The ON pins have a 1.23V threshold with 50mV of hysteresis. A high input turns on the external MOSFET with a 10ms delay. A low input turns off the external MOSFET and resets circuit breaker faults.", 14 ~{FAULT2} (io) "F\A\U\L\T\ Input/Output Status. When the FTMR pin has reached the VFTMR(H) threshold, the fault status is set active and the F\A\U\L\T\ pin output pulls low. When fault is inactive, a 10uA current source pulls this pin up to (See Datasheet)", 15 ~{FAULT1} (io) "F\A\U\L\T\ Input/Output Status. When the FTMR pin has reached the VFTMR(H) threshold, the fault status is set active and the F\A\U\L\T\ pin output pulls low. When fault is inactive, a 10uA current source pulls this pin up to (See Datasheet)", 16 ON1 (in) "ON Control Inputs. The ON pins have a 1.23V threshold with 50mV of hysteresis. A high input turns on the external MOSFET with a 10ms delay. A low input turns off the external MOSFET and resets circuit breaker faults.", 17 EP (power) "Exposed Pad: The exposed pad may be left open or connected to device ground"

## LTC4226CUD-2#TRPBF
designator U?
Wide Operating Range Dual Hot Swap Controller, 4.5 to 44 V Vin, 16-pin QFN (UD-16-EPV-AA), 0 to 70 degC, Pb-Free, Tape and Reel; Manufacturer: Linear Technology; PartNumber: LTC4226CUD-2#TRPBF; Active Limiting: yes; Circuit Breaker Accuracy(%): 10; Circuit Breaker Threshold: 50 mV; Circuit Breakers(#): 2; Extended Temp: C, I; Foldback: no; PackageVersion: Rev. A, 06/2010; PackageReference: UD-16; PackageDescription: 16-Pin Plastic QFN, Body 3 x 3 mm, Pitch 0.5 mm; Supplier 1: Digi-Key; Supplier Part Number 1: LTC4226CUD-2#TRPBF-ND; Supplier 2: Newark; Supplier Part Number 2: 48W6420; Fast Comparator: yes; Fault: yes; Packing: Tape and Reel; Power Good: no; Reset: no; RoHS: TRUE; Vin Range: 4.5 to 44 V; Mounting Technology: Surface Mount; Code_JEDEC: MO-220; ComponentLink1Description: Manufacturer URL; ComponentLink1URL: http://www.linear.com/; ComponentLink2Description: Datasheet; ComponentLink2URL: http://cds.linear.com/docs/en/datasheet/4226f.pdf; ComponentLink3Description: Package Specification; ComponentLink3URL: http://cds.linear.com/docs/en/packaging/QFN_16_05-08-1700.pdf
footprint LT-UD-16-EPV-AA_N (QFN, 16-Leads, Body 3.1x3.1mm, Pitch 0.5mm, Thermal Pad 1.65x1.65mm, IPC Medium Density)
footprint LT-UD-16-EPV-AA_L (QFN, 16-Leads, Body 3.1x3.1mm, Pitch 0.5mm, Thermal Pad 1.65x1.65mm, IPC High Density)
footprint LT-UD-16-EPV-AA_M (QFN, 16-Leads, Body 3.1x3.1mm, Pitch 0.5mm, Thermal Pad 1.65x1.65mm, IPC Low Density)
pins: 1 VCC1 (power) "Supply Voltage and Current Sense Positive Input. An undervoltage lockout circuit disables the MOSFET switch until VCC is above the lockout voltage VCC(UVL) for 50ms.", 2 SENSE1 (in) "Current Sense Negative Input. The circuit breaker comparator and the current limit amplifier monitor the voltage across the sense resistor. The current limiting amplifier controls the GATE of the external MOSFET to keep the (See Datasheet)", 3 GATE1 (out) "Gate Drive for External MOSFET. The gate driver controls the external N-channel MOSFET switch by applying a voltage across the GATE and OUT pins which connect to the MOSFET gate and source pins. A charge pump sources 9uA at (See Datasheet)", 4 OUT1 (in) "Gate Drive Return. Connect this pin to the source of the external N-channel MOSFET switch. This pin provides a return for the gate pull-down circuit. When the GATE pin is below the OUT pin, the internal clamp diode draws (See Datasheet)", 5 FTMR1 (in) "Fault Timer. A capacitor sets the dualrate fault timer durations: circuit breaker CB timeout and current limit CL timeout.", 6 GND (power) "Device ground", 7 CLS (in) "Three-State Current Limit Select Input. Tying this pin low enables 1.5x current limit; opening this pin enables 2xcurrent limit and tying this pin high (above 2V) enables 3xcurrentlimit.", 8 FTMR2 (in) "Fault Timer. A capacitor sets the dualrate fault timer durations: circuit breaker CB timeout and current limit CL timeout.", 9 OUT2 (in) "Gate Drive Return. Connect this pin to the source of the external N-channel MOSFET switch. This pin provides a return for the gate pull-down circuit. When the GATE pin is below the OUT pin, the internal clamp diode draws (See Datasheet)", 10 GATE2 (out) "Gate Drive for External MOSFET. The gate driver controls the external N-channel MOSFET switch by applying a voltage across the GATE and OUT pins which connect to the MOSFET gate and source pins. A charge pump sources 9uA at (See Datasheet)", 11 SENSE2 (in) "Current Sense Negative Input. The circuit breaker comparator and the current limit amplifier monitor the voltage across the sense resistor. The current limiting amplifier controls the GATE of the external MOSFET to keep the (See Datasheet)", 12 VCC2 (power) "Supply Voltage and Current Sense Positive Input. An undervoltage lockout circuit disables the MOSFET switch until VCC is above the lockout voltage VCC(UVL) for 50ms.", 13 ON2 (in) "ON Control Inputs. The ON pins have a 1.23V threshold with 50mV of hysteresis. A high input turns on the external MOSFET with a 10ms delay. A low input turns off the external MOSFET and resets circuit breaker faults.", 14 ~{FAULT2} (io) "F\A\U\L\T\ Input/Output Status. When the FTMR pin has reached the VFTMR(H) threshold, the fault status is set active and the F\A\U\L\T\ pin output pulls low. When fault is inactive, a 10uA current source pulls this pin up to (See Datasheet)", 15 ~{FAULT1} (io) "F\A\U\L\T\ Input/Output Status. When the FTMR pin has reached the VFTMR(H) threshold, the fault status is set active and the F\A\U\L\T\ pin output pulls low. When fault is inactive, a 10uA current source pulls this pin up to (See Datasheet)", 16 ON1 (in) "ON Control Inputs. The ON pins have a 1.23V threshold with 50mV of hysteresis. A high input turns on the external MOSFET with a 10ms delay. A low input turns off the external MOSFET and resets circuit breaker faults.", 17 EP (power) "Exposed Pad: The exposed pad may be left open or connected to device ground"